# EAGLE library part 5584АП6АУ (library std-logic)
Восьмиканальный двунаправленный приемопередатчик с тремя состояниями на выходе. Производитель: ОАО "ИНТЕГРАЛ", г. Минск, р. Беларусь Технические условия: АЕЯР.431200.209 ТУ
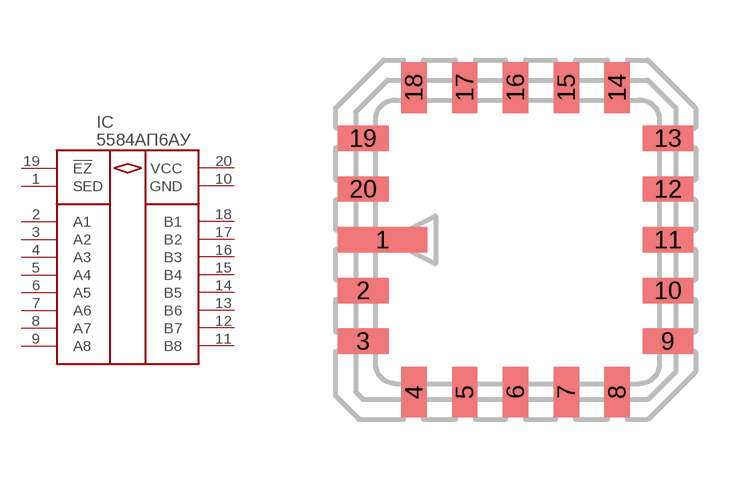
[diagram p1: symbol with the pads of 5121.20-A; footprint 5121.20-A]

Designator prefix IC

## 5584АП6АУ  [5121.20-A]
1  SED  in
2  A1
3  A2
4  A3
5  A4
6  A5
7  A6
8  A7
9  A8
10  GND  pwr
11  B8
12  B7
13  B6
14  B5
15  B4
16  B3
17  B2
18  B1
19  !EZ  in
20  VCC  pwr

## Footprint 5121.20-A (pad centres in mm)
smd 2.24 x 0.635: 1 -3.325,0
smd 1.27 x 0.635: 2 -3.81,-1.27; 3 -3.81,-2.54; 9 3.81,-2.54; 10 3.81,-1.27; 11 3.81,0; 12 3.81,1.27; 13 3.81,2.54; 19 -3.81,2.54; 20 -3.81,1.27
smd 0.635 x 1.27: 4 -2.54,-3.81; 5 -1.27,-3.81; 6 0,-3.81; 7 1.27,-3.81; 8 2.54,-3.81; 14 2.54,3.81; 15 1.27,3.81; 16 0,3.81; 17 -1.27,3.81; 18 -2.54,3.81